# Altium footprint library CAP_Size_C.PcbLib: 1 footprints
Each footprint in its own frame and in the unit in brackets; x right, y up, seen from the top. Pads: shape width x height; smd on the part's side, far side on the other; paste and mask are expansions set on the pad; w line width, h text height; cw(c..) or ccw(c..) is an arc to the next point about the centre after c.
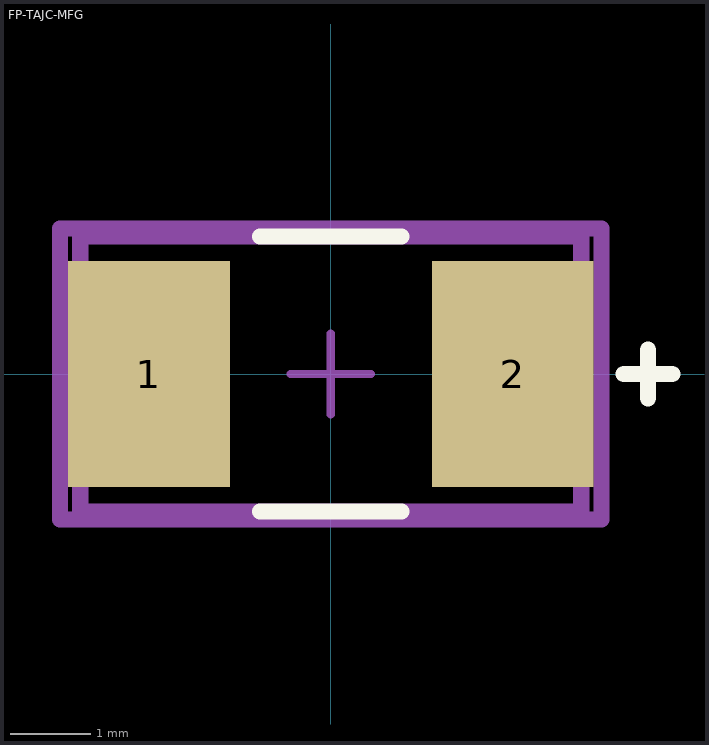
[diagram p0: the footprint, top view; thin cyan lines are the x and y axes]

## FP-TAJC-MFG [mm]
pads (2):
  rect 2x2.8 smd paste+0 mask+0: 1(-2.25,0) 2(2.25,0)
Top Overlay:
  lines w0.2: -0.875,-1.7 0.875,-1.7 ; -0.875,1.7 0.875,1.7 ; 3.625,0 4.225,0 ; 3.925,-0.3 3.925,0.3
Top Assembly:
  lines w0.2: -3.35,-1.8 3.35,-1.8 3.35,1.8 -3.35,1.8 -3.35,-1.8
  text ".Designator" at 0,-0.001 h1
Top 3D Body:
  lines w0.2: -3.1,-1.7 3.1,-1.7 3.1,1.7 -3.1,1.7 -3.1,-1.7
Top Courtyard:
  lines w0.2: -3.35,-1.8 3.35,-1.8 3.35,1.8 -3.35,1.8 -3.35,-1.8
Top Component Center:
  lines w0.1: -0.5,0 0.5,0 ; 0,-0.5 0,0.5
3D body "Cap_AVX_TAJC157M006TNJ_eec.STEP": height 0.25, standoff 0, extent -3.35,-1.8 3.35,1.8